# Altium footprint library TerminalBlocks.PcbLib: 2 footprints
Each footprint in its own frame and in the unit in brackets; x right, y up, seen from the top. Pads: shape width x height; smd on the part's side, far side on the other; paste and mask are expansions set on the pad; w line width, h text height; cw(c..) or ccw(c..) is an arc to the next point about the centre after c.
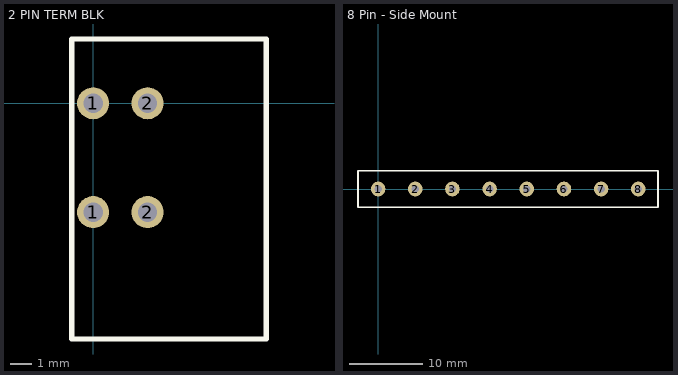
[diagram p0: the footprints below, top view; thin cyan lines are the x and y axes]

## 2 PIN TERM BLK [mm] "2 Poles/2 Pin 2.54mm/0.1\" PCB Universal Screw Terminal Block Connector"
pads (4):
  round 1.5 hole 0.9: 1(0,-5.08) 1(0,0) 2(2.54,-5.08) 2(2.54,0)
Top Overlay:
  lines w0.254: -1,-11 -1,3 8.08,3 8.08,-11 -1,-11
3D body: height 8, standoff 0, extent -1,-11 8,3

## 8 Pin - Side Mount [mm] "8 Position Terminal Block Header, Male Pins, Shrouded (4 Side) 0.150\" (3.81mm) 90°, Right Angle Through Hole"
pads (8):
  round 2 hole 1: 1(0,0) 2(5.08,0) 3(10.16,0) 4(15.24,0) 5(20.32,0) 6(25.4,0) 7(30.48,0) 8(35.56,0)
Top Overlay:
  lines w0.254: -2.75,-2.5 38.25,-2.5 38.25,2.5 -2.75,2.5 -2.75,-2.5